# Altium schematic symbol library hu.SchLib: 14 symbols
Pins are listed as number, name and electrical type; pins without a type are passive.

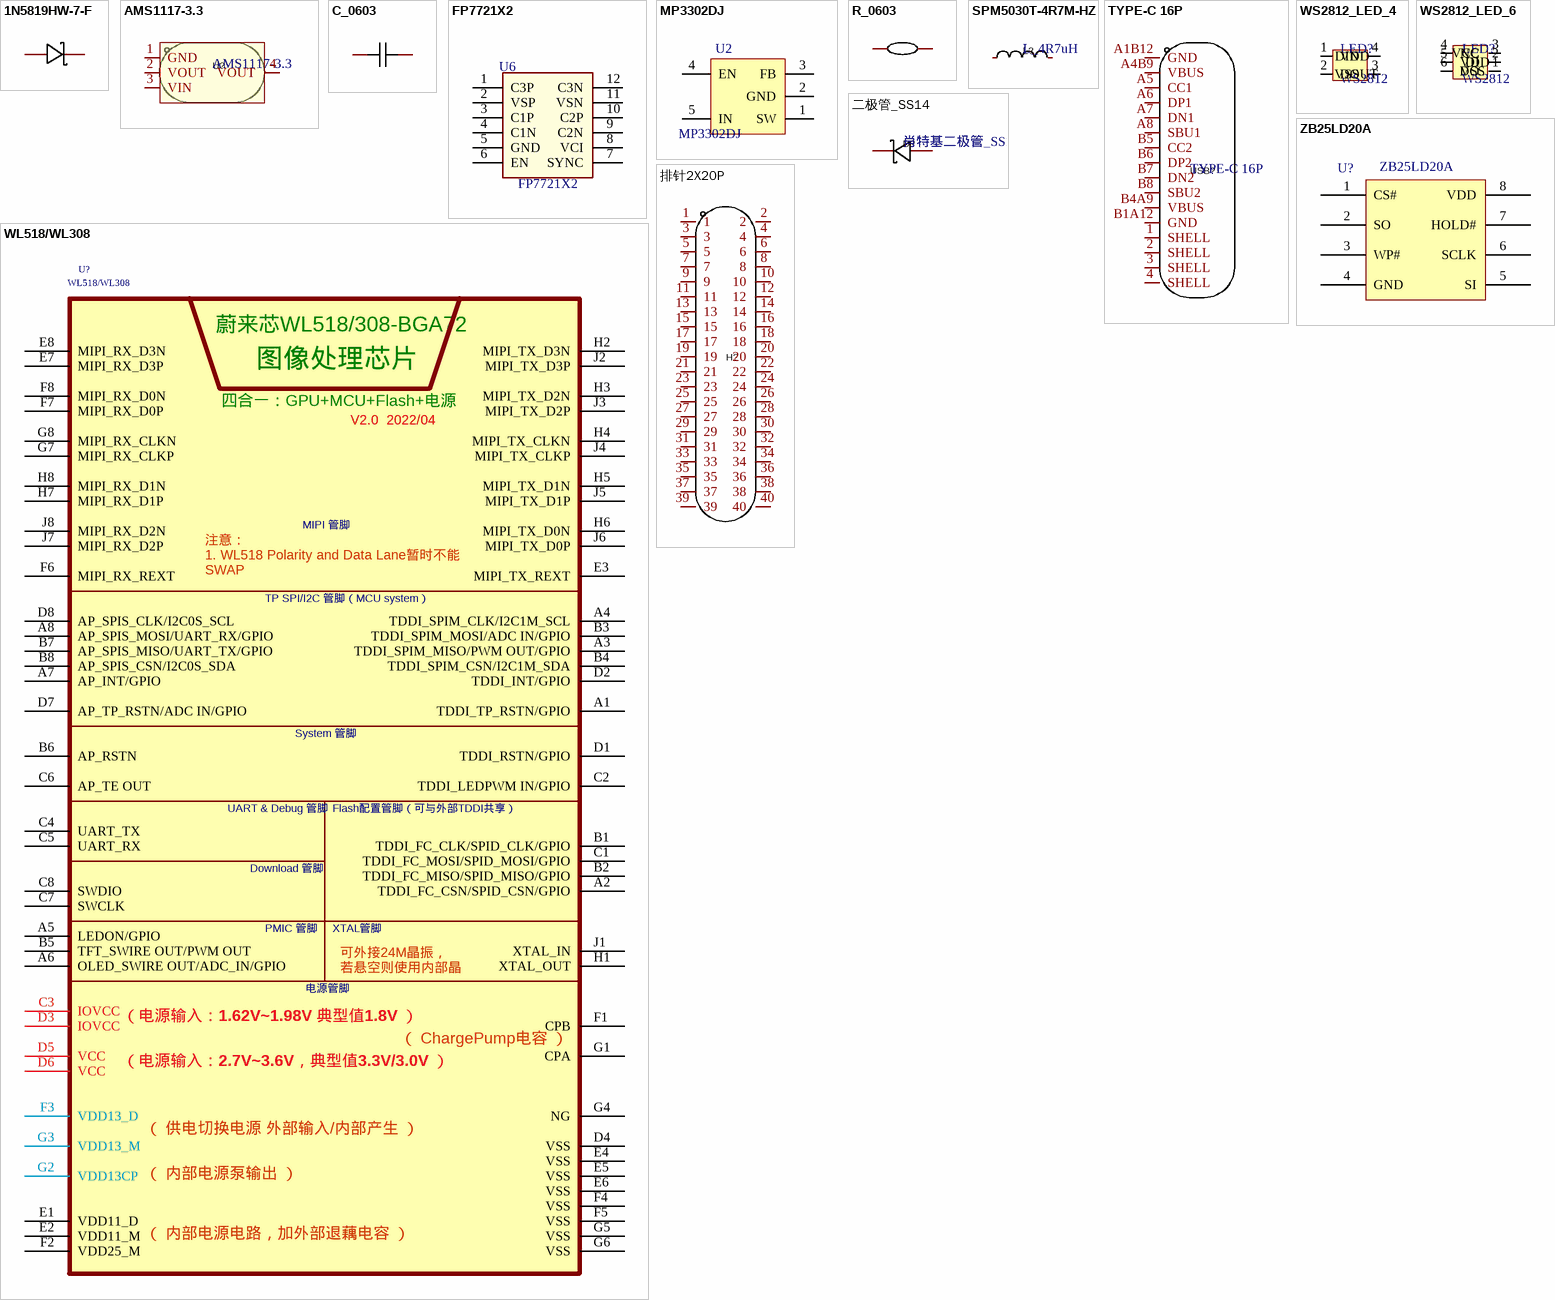
[diagram p0: symbols 1N5819HW-7-F to 排针2X20P]

## 1N5819HW-7-F
designator D?  (value not drawn)
Manufacturer: DIODES(美台); Add into BOM: yes; Reverse Voltage (Vr): 40V; Average Rectified Current (Io): 1A; Forward Voltage (Vf@If): 450mV@1A; Name: 1N5819HW-7-F; Symbol: 1N5819HW-7-F; Device: 1N5819HW-7-F; LCSC Part Name: 40V 1A 450mV@1A; Supplier Part: C82544; Manufacturer Part: 1N5819HW-7-F; Supplier Footprint: SOD-123; JLCPCB Part Class: Extended Part; Datasheet: https://atta.szlcsc.com/upload/public/pdf/source/20161024/1477288459223.pdf; Supplier: LCSC; Convert to PCB: yes
3D model SOD-123_L2.8-W1.8-H1.4-LS3.7
footprint SOD-123_L2.8-W1.8-LS3.7-FD
pins: 1 A, 2 K

## AMS1117-3.3
designator U?
电平转换IC; Manufacturer: 美国AMS; Device: AMS1117-3.3_C6186; Add into BOM: yes; Output Type: 固定; Output Polarity: 正; Number of Outputs: 1; Output Voltage: 3.3V; Dropout Voltage: 1.3V@(800mA); Output Current: 1A; Power Supply Rejection Ratio (PSRR): 72dB@(120Hz); Name: AMS1117-3.3; Symbol: AMS1117-3.3; LCSC Part Name: Vout=3.3V 1A 72dB@(120Hz); Supplier Part: C6186; Manufacturer Part: AMS1117-3.3; Supplier Footprint: SOT-223; JLCPCB Part Class: Basic Part; Datasheet: https://atta.szlcsc.com/upload/public/pdf/source/20180727/C6186_7A095716F0823C02F1997A905E26C086.pdf; Supplier: LCSC; Convert to PCB: yes; Maximum Input Voltage: -; Quiescent Current (Ground Current): -; Noise: -; Feature: -; Operating Temperature: -
3D model SOT-223-4P_L6.5-W3.5-H1.6-LS7.0-P2.30
footprint SOT-223-3_L6.5-W3.4-P2.30-LS7.0-BR
pins: 1 GND, 2 VOUT, 3 VIN, 4 VOUT

## C_0603
designator C?  (value not drawn)
0603封装电阻; Manufacturer: SAMSUNG(三星); Name: 8pF; Symbol: CL10C080CB8NNNC; Add into BOM: yes; Value: 8pF; Tolerance: ±0.25pF; Voltage Rated: 50V; Temperature Coefficient: C0G; Device: CL10C080CB8NNNC; LCSC Part Name: 8pF ±0.25pF 50V; Supplier Part: C90722; Manufacturer Part: CL10C080CB8NNNC; Supplier Footprint: 0603; JLCPCB Part Class: Extended Part; Datasheet: https://atta.szlcsc.com/upload/public/pdf/source/20190505/C90722_D4B195DD7553DBDC6476213C0F945708.pdf; Supplier: LCSC; Convert to PCB: yes
3D model C0603_L1.6-W0.8-H0.8
footprint C0603
pins: 1, 2

## FP7721X2
designator U6
升降压芯片
footprint FP7721X2 (UTDFN-12(2.4mm x 1.5mm))
footprint FP7721X2 (UTDFN-12(2.4mm x 1.5mm))
footprint FP7721X2 (UTDFN-12(2.4mm x 1.5mm))
footprint FP7721X2 (UTDFN-12(2.4mm x 1.5mm))
pins: 1 C3P, 2 VSP, 3 C1P, 4 C1N, 5 GND, 6 EN, 7 SYNC, 8 VCI, 9 C2N, 10 C2P, 11 VSN, 12 C3N

## MP3302DJ
designator U2
5V-24V电平转换芯片; Add into BOM: yes; PCB DECAL: TSOT-23-5_L2.9-W1.6-P0.95-LS2.8-BR; Name: MP3302DJ; Symbol: MP3302DJ; Device: MP3302DJ; Convert to PCB: yes
footprint TSOT-23-5_L2.9-W1.6-P0.95-LS2.8-BR
footprint TSOT-23-5_L2.9-W1.6-P0.95-LS2.8-BR
footprint TSOT-23-5_L2.9-W1.6-P0.95-LS2.8-BR
pins: 1 SW, 2 GND, 3 FB, 4 EN, 5 IN

## R_0603
designator R?  (value not drawn)
0603电阻; Manufacturer: UNI-ROYAL(厚声); Name: 887Ω; Symbol: 0603WAF8870T5E; Add into BOM: yes; Value: 887Ω; Tolerance: ±1%; Power(Watts): 1/10W; Temperature Coefficient: ±100ppm/℃; Overload Voltage (Max): 75V; Device: 0603WAF8870T5E; LCSC Part Name: 887Ω ±1%; Supplier Part: C93619; Manufacturer Part: 0603WAF8870T5E; Supplier Footprint: 0603; JLCPCB Part Class: Extended Part; Datasheet: https://atta.szlcsc.com/upload/public/pdf/source/20200306/C422600_1E6D84923E4A46A82E41ADD87F860B5C.pdf; Supplier: LCSC; Convert to PCB: yes; Type: 厚膜电阻; Operating Temperature Range: -55℃~+155℃
3D model R0603_L1.6-W0.8-H0.8
footprint R0603
pins: 1, 2

## SPM5030T-4R7M-HZ
designator L?, comment L_4R7uH
4R7uH电感 SMD封装 SPM5030T-4R7M-HZ; Manufacturer: TDK; Name: 4.7uH; Add into BOM: yes; Value: 4.7uH; Tolerance: ±20%; Rated Current: 4A; DC Resistance (DCR): 45mΩ; Symbol: SPM5030T-4R7M-HZ; Device: SPM5030T-4R7M-HZ; LCSC Part Name: 4.7uH ±20% 4A 45mΩ; Supplier Part: C435271; Manufacturer Part: SPM5030T-4R7M-HZ; Supplier Footprint: SMD; JLCPCB Part Class: Extended Part; Datasheet: https://atta.szlcsc.com/upload/public/pdf/source/20191009/C435271_9A6F67BD8321F0FE2BD27E7481E0EA5D.pdf; Supplier: LCSC; Convert to PCB: yes
3D model IND-SMD_L5.4-W5.2-H3.0
footprint IND-SMD_L5.2-W5.1
pins: 1, 2

## TYPE-C 16P
designator USB?
Type-C接口; Manufacturer: SHOU HAN(首韩); Name: TYPE-C 16P(073); Add into BOM: yes; Gender: 母座; Number of Contacts: 16; Number of Ports: 1; Mounting Sytle: 卧贴; Current Rating - Power (Max): 5A; Symbol: TYPE-C 16P(073); Device: TYPE-C 16P(073); LCSC Part Name: TYPE-C母座 16P 4脚插件带定位柱 不锈钢外壳 3次模顶; Supplier Part: C668624; Manufacturer Part: TYPE-C 16P(073); Supplier Footprint: SMD; JLCPCB Part Class: Extended Part; Datasheet: https://atta.szlcsc.com/upload/public/pdf/source/20200618/C668624_CC51EC37614090AAD56C1421DE954C80.pdf; Supplier: LCSC; Convert to PCB: yes; Connector Type: Type-C; Standard: -; Operating Temperature Range: -25℃~+85℃
3D model USB-C-SMD_TYPE-C16PIN
footprint USB-C-SMD_TYPE-C16PIN_C668624
pins: 1 SHELL, 2 SHELL, 3 SHELL, 4 SHELL, A1B12 GND, A4B9 VBUS, A5 CC1, A6 DP1, A7 DN1, A8 SBU1, B1A12 GND, B4A9 VBUS, B5 CC2, B6 DP2, B7 DN2, B8 SBU2

## WL518/WL308
designator U?
码片IC
footprint WL518-BGA72 4.5mm*5mm
footprint WL518-BGA72 4.5mm*5mm
pins: A1 TDDI_TP_RSTN/GPIO, A2 TDDI_FC_CSN/SPID_CSN/GPIO, A3 TDDI_SPIM_MISO/PWM OUT/GPIO, A4 TDDI_SPIM_CLK/I2C1M_SCL, A5 LEDON/GPIO, A6 OLED_SWIRE OUT/ADC_IN/GPIO, A7 AP_INT/GPIO, A8 AP_SPIS_MOSI/UART_RX/GPIO, B1 TDDI_FC_CLK/SPID_CLK/GPIO, B2 TDDI_FC_MISO/SPID_MISO/GPIO, B3 TDDI_SPIM_MOSI/ADC IN/GPIO, B4 TDDI_SPIM_CSN/I2C1M_SDA, B5 TFT_SWIRE OUT/PWM OUT, B6 AP_RSTN, B7 AP_SPIS_MISO/UART_TX/GPIO, B8 AP_SPIS_CSN/I2C0S_SDA, C1 TDDI_FC_MOSI/SPID_MOSI/GPIO, C2 TDDI_LEDPWM IN/GPIO, C3 IOVCC, C4 UART_TX, C5 UART_RX, C6 AP_TE OUT, C7 SWCLK, C8 SWDIO, D1 TDDI_RSTN/GPIO, D2 TDDI_INT/GPIO, D3 IOVCC, D4 VSS, D5 VCC, D6 VCC, D7 AP_TP_RSTN/ADC IN/GPIO, D8 AP_SPIS_CLK/I2C0S_SCL, E1 VDD11_D, E2 VDD11_M, E3 MIPI_TX_REXT, E4 VSS, E5 VSS, E6 VSS, E7 MIPI_RX_D3P, E8 MIPI_RX_D3N, F1 CPB, F2 VDD25_M, F3 VDD13_D, F4 VSS, F5 VSS, F6 MIPI_RX_REXT, F7 MIPI_RX_D0P, F8 MIPI_RX_D0N, G1 CPA, G2 VDD13CP, G3 VDD13_M, G4 NG, G5 VSS, G6 VSS, G7 MIPI_RX_CLKP, G8 MIPI_RX_CLKN, H1 XTAL_OUT, H2 MIPI_TX_D3N, H3 MIPI_TX_D2N, H4 MIPI_TX_CLKN, H5 MIPI_TX_D1N, H6 MIPI_TX_D0N, H7 MIPI_RX_D1P, H8 MIPI_RX_D1N, J1 XTAL_IN, J2 MIPI_TX_D3P, J3 MIPI_TX_D2P, J4 MIPI_TX_CLKP, J5 MIPI_TX_D1P, J6 MIPI_TX_D0P, J7 MIPI_RX_D2P, J8 MIPI_RX_D2N
text: 蔚来芯WL518/308-BGA72; 图像处理芯片; 四合一：GPU+MCU+Flash+电源; V2.0  2022/04; MIPI 管脚; 注意： / 1. WL518 Polarity and Data Lane暂时不能SWAP / 2. MIPI阻抗匹配电阻为4.02KΩ, E96精度; TP SPI/I2C 管脚（MCU system）; System 管脚; UART & Debug 管脚; Flash配置管脚（可与外部TDDI共享）; Download 管脚; PMIC 管脚; XTAL管脚; 可外接24M晶振， / 若悬空则使用内部晶振; 电源管脚; （电源输入：1.62V~1.98V 典型值1.8V ）; （ ChargePump电容 ）; （电源输入：2.7V~3.6V，典型值3.3V/3.0V ）; （ 供电切换电源 外部输入/内部产生 ）; （ 内部电源泵输出 ）; （ 内部电源电路，加外部退藕电容 ）

## WS2812_LED_4
designator LED?, comment WS2812
WS2812 LED 4P
footprint WS2812_LED_4
footprint WS2812_LED_4
pins: 1 VDD, 2 DOUT, 3 VSS, 4 DIN

## WS2812_LED_6
designator LED?, comment WS2812
WS2812 LED 6P
footprint WS2812_LED_6
footprint WS2812_LED_6
pins: 1 DO, 2 DI, 3 VCC, 4 NC, 5 VDD, 6 VSS

## ZB25LD20A
designator U?
FLASH; Parameter: WSON-8- 2X3mm
footprint FLASH-WSON-8- 2X3mm
footprint FLASH-WSON-8- 2X3mm - 2
footprint FLASH-WSON-8- 2X3mm
footprint FLASH-WSON-8- 2X3mm
pins: 1 CS#, 2 SO, 3 WP#, 4 GND, 5 SI, 6 SCLK, 7 HOLD#, 8 VDD
2 alternate drawings of the same symbol

## 二极管_SS14
designator D?, comment 肖特基二极管_SS14
肖特基二极管; Manufacturer: onsemi(安森美); Name: SS14; Symbol: SS14_C83852; Add into BOM: yes; Reverse Voltage (Vr): 40V; Average Rectified Current (Io): 1A; Forward Voltage (Vf@If): 500mV@1A; Device: SS14_C83852; LCSC Part Name: SS14; Supplier Part: C83852; Manufacturer Part: SS14; Supplier Footprint: SMA(DO-214AC); JLCPCB Part Class: Extended Part; Datasheet: https://atta.szlcsc.com/upload/public/pdf/source/20181222/C83852_041FE29A925F1DAA7D9CB1F1C69076C2.pdf; Supplier: LCSC; Convert to PCB: yes
3D model SMA_L4.3-W2.6-LS5.2-RD
footprint SMA_L4.3-W2.6-LS5.2-RD
pins: 1 K, 2 A

## 排针2X20P
designator H?, comment PZ200-2-20-Z  (value not drawn)
Manufacturer: HCTL(华灿天禄); Add into BOM: yes; Pitch: 2mm; Pin Structure: 2x20P; Circluar Pins/Square Pins: 方针; Current Rating (Max): 1.5A; Name: PZ200-2-20-Z; Symbol: PZ200-2-20-Z; Device: PZ200-2-20-Z; LCSC Part Name: 2mm 2x20P 直插 方针; Supplier Part: C2906006; Manufacturer Part: PZ200-2-20-Z; Supplier Footprint: 插件,P=2mm; JLCPCB Part Class: Extended Part; Datasheet: https://atta.szlcsc.com/upload/public/pdf/source/20211108/81EC9D0128C817B17F97D545889289A1.pdf; Supplier: LCSC; Convert to PCB: yes; Number of Pins: 40; Number of Rows: 2; Row Spacing: 2mm; Mounting Type: 直插; Voltage Rating (Max): -; Length of Mating Pin: 3.9mm; Insulation Height: 2mm; Length of End Connection Pin: 2.8mm; Operating Temperature Range: -40℃~+105℃; Color: 黑色
3D model HDR-TH_40P-P2.00-V-M-R2-C20-S2.00
footprint HDR-TH_40P-P2.00-V-M-R2-C20-S2.00
pins: 1, 2, 3, 4, 5, 6, 7, 8, 9, 10, 11, 12, 13, 14, 15, 16, 17, 18, 19, 20, 21, 22, 23, 24, 25, 26, 27, 28, 29, 30, 31, 32, 33, 34, 35, 36, 37, 38, 39, 40